# Altium footprint library Librerias PCB.PcbLib: 26 footprints (part 1 of 2)
Each footprint in its own frame and in the unit in brackets; x right, y up, seen from the top. Pads: shape width x height; smd on the part's side, far side on the other; paste and mask are expansions set on the pad; w line width, h text height; cw(c..) or ccw(c..) is an arc to the next point about the centre after c.
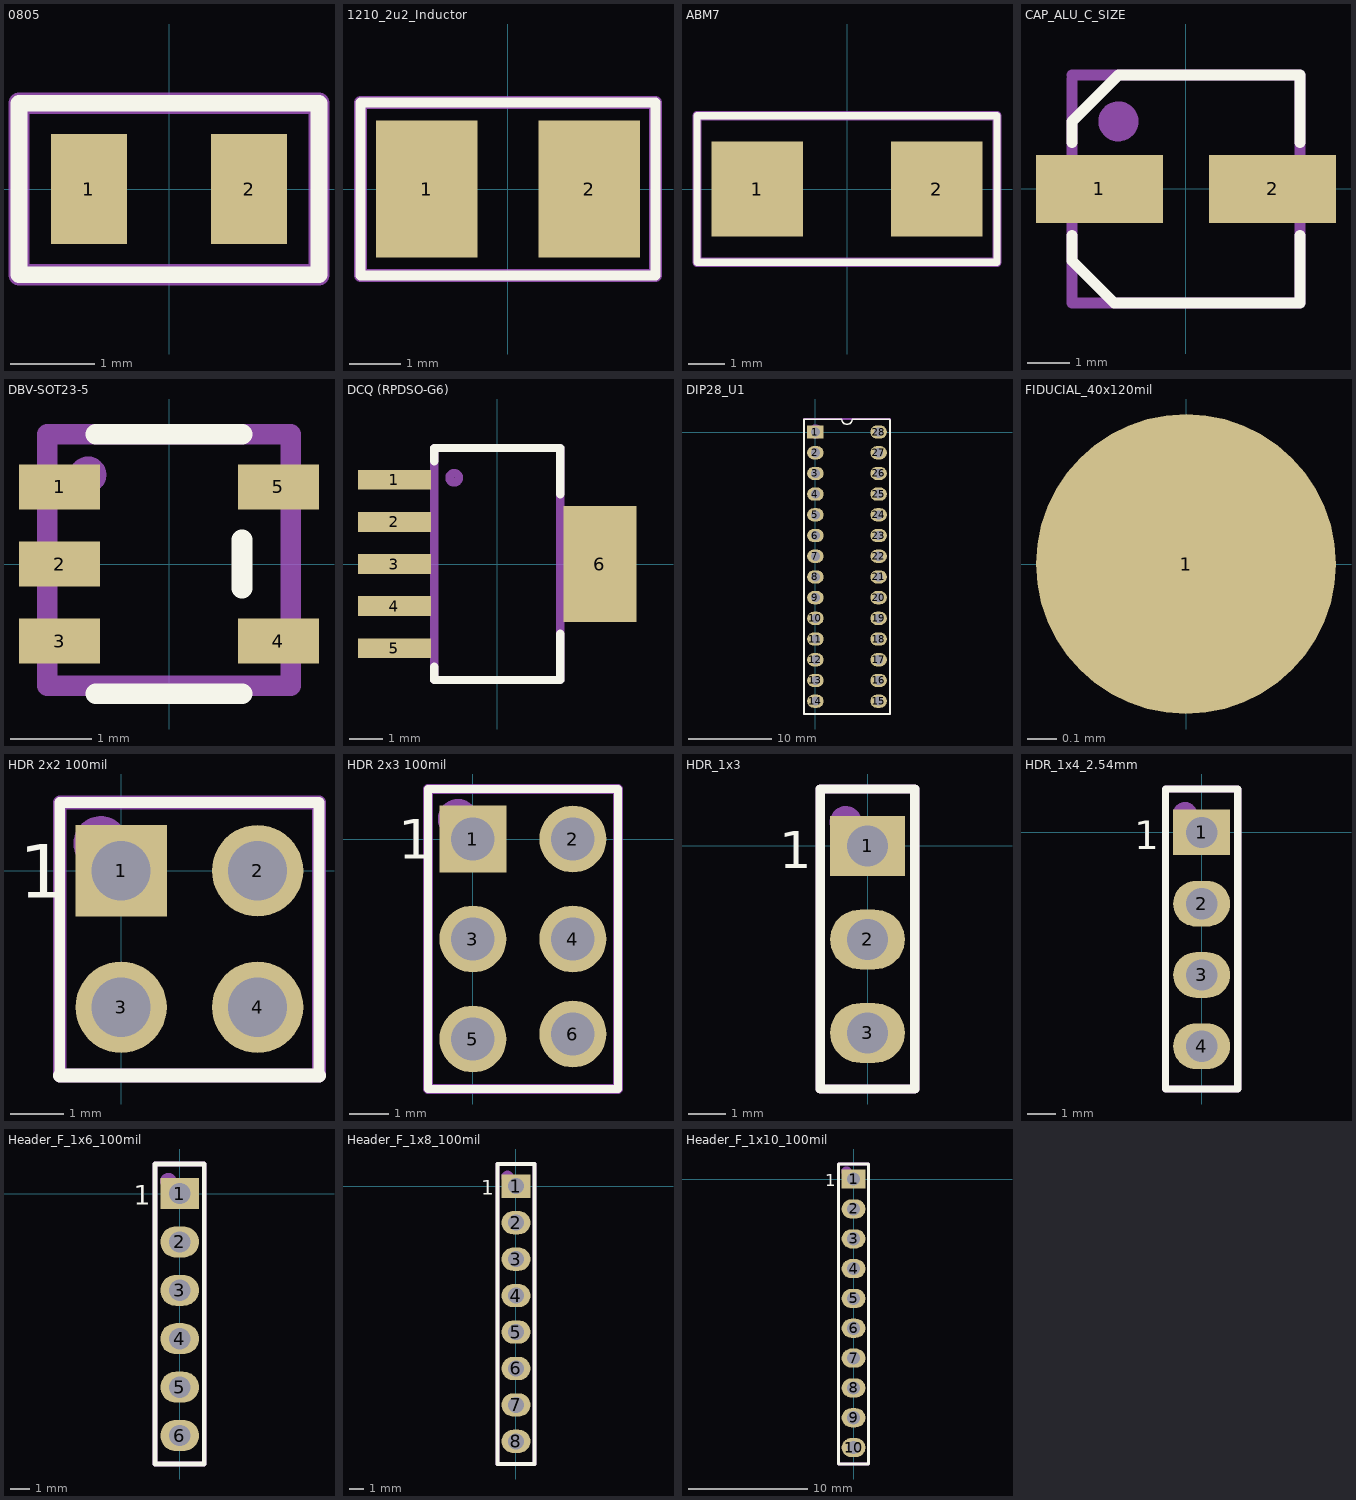
[diagram p0: the footprints below, top view; thin cyan lines are the x and y axes]

## 0805 [mm]
pads (2):
  rect 0.9x1.3 smd: 1(-0.95,0) 2(0.95,0)
Top Overlay:
  lines w0.2: -1.778,-1.016 -1.778,1.016 1.778,1.016 1.778,-1.016 -1.778,-1.016
Mechanical 29:
  lines w0.254: -1.778,-1.016 -1.778,1.016 1.778,1.016 1.778,-1.016 -1.778,-1.016
  text ".Designator" at -0.381,-0.212 h0.51
3D body "c0805c104j5ractu.stp": height 0.88, standoff 0, extent -1.057,-0.725 1.143,0.725

## 1210_2u2_Inductor [mm]
pads (2):
  rect 2x2.7 smd: 1(-1.6,0) 2(1.6,0)
Top Overlay:
  lines w0.2: -2.9,-1.7 -2.9,1.7 2.9,1.7 2.9,-1.7 -2.9,-1.7
Mechanical 29:
  lines w0.254: -2.9,-1.7 2.9,-1.7 2.9,1.7 -2.9,1.7 -2.9,-1.7
  text ".Designator" at -1.6,-0.367 h1
3D body "1206_Inductor.stp": height 0.56, standoff 0.01, extent -1.45,-0.7 1.65,0.85

## ABM7 [mm]
pads (2):
  rect 2.5x2.6 smd: 1(-2.45,0) 2(2.45,0)
Top Overlay:
  lines w0.2: -4.1,-2 4.1,-2 4.1,2 -4.1,2 -4.1,-2
Mechanical 29:
  lines w0.254: -4.1,-2 -4.1,2 4.1,2 4.1,-2 -4.1,-2
  text ".Designator" at -1.446,-0.338 h1.52
3D body "User Library-Xtal-ABM7.STEP": height 1.41, standoff 0.01, extent -3.1,-1.9 3.1,1.8

## CAP_ALU_C_SIZE [mm]
pads (2):
  rect 3x1.6 smd: 1(-2.05,0) 2(2.05,0)
Top Overlay:
  lines w0.254: -2.7,-1.1 -2.7,-1.7 -1.7,-2.7 2.7,-2.7 2.7,-1.1 ; -2.7,1.1 -2.7,1.6 -1.6,2.7 2.7,2.7 2.7,1.1
Mechanical 29:
  circle w0.5: c-1.6,1.6 r0.224
  lines w0.254: -2.7,2.6 -2.7,-2.7 2.7,-2.7 2.7,2.7 -2.7,2.7
  text "String" at 0.2,0.633 h1.3
3D body "User Library-capacitor size C.step": height 5.41, standoff -0.01, extent -2.95,-2.65 2.95,2.65

## DBV-SOT23-5 [mm]
pads (5):
  rect 1x0.55 smd: 1(-1.35,0.95) 2(-1.35,0) 3(-1.35,-0.95) 4(1.35,-0.95) 5(1.35,0.95)
Top Overlay:
  lines w0.254: -0.9,-1.6 0.9,-1.6 ; -0.9,1.6 0.9,1.6 ; 0.9,-0.3 0.9,0.3
Mechanical 29:
  circle w0.254: c-1,1.1 r0.1
  lines w0.254: -1.5,-1.5 -1.5,1.6 1.5,1.6 1.5,-1.5 -1.5,-1.5
  text ".Designator" at -0.5,-0.6 h0.6
3D body "User Library-TPS560200DBV.step": height 1.31, standoff -0.14, extent -1.514,-1.5 1.514,1.5

## DCQ (RPDSO-G6) [mm]
pads (6):
  rect 2.2x0.6 smd: 1(-3.1,2.54) 2(-3.1,1.27) 3(-3.1,0) 4(-3.1,-1.27) 5(-3.1,-2.54)
  rect 2.2x3.5 smd: 6(3.1,0)
Top Overlay:
  lines w0.254: -1.9,-3.1 -1.9,-3.5 1.9,-3.5 1.9,-2.1 ; -1.9,3.1 -1.9,3.5 1.9,3.5 1.9,2.1
Mechanical 29:
  circle w0.254: c-1.3,2.6 r0.141
  lines w0.254: -1.9,-3.5 -1.9,3.5 1.9,3.5 1.9,-3.5 -1.9,-3.5
  text "String" at 1.092,-2.6 h1.52
3D body "User Library-TPS73701DCQ.step": height 1.71, standoff -0.09, extent -3.63,-3.275 3.63,3.275

## DIP28_7.62mm_Socket [mm] "DIP28_IC_Socket"
3D body "DIP28_Socket.stp": height 5, standoff -3.1, extent -0.9,-34.56 9.1,1

## DIP28_U1 [mm]
pads (28):
  rect 2x1.6 hole 1.1: 1(0,0)
  oval 2x1.6 hole 1.1: 2(0,-2.5) 3(0,-5) 4(0,-7.5) 5(0,-10) 6(0,-12.5) 7(0,-15) 8(0,-17.5) 9(0,-20) 10(0,-22.5) 11(0,-25) 12(0,-27.5) 13(0,-30) 14(0,-32.5) 15(7.62,-32.5) 16(7.62,-30) 17(7.62,-27.5) 18(7.62,-25) 19(7.62,-22.5) 20(7.62,-20) 21(7.62,-17.5) 22(7.62,-15) 23(7.62,-12.5) 24(7.62,-10) 25(7.62,-7.5) 26(7.62,-5) 27(7.62,-2.5) 28(7.62,0)
Top Overlay:
  lines w0.2: -1.39,-34.05 -1.39,1.55 3.185,1.55 ccw(c3.81,1.55) 4.435,1.55 8.935,1.55 8.966,1.519 9.01,1.475 9.01,-34.05 -1.39,-34.05
Mechanical 29:
  circle w0.5: c0.01,0.05 r0.608
  lines w0.254: -1.39,-34.05 9.01,-34.05 9.01,1.55 -1.39,1.55 -1.39,-34.05
  text ".Designator" at 6.21,-31.55 h3
3D body "User Library-User Library-ATmega 48_88_168_328 28P3_90DEG.step": height 8.04, standoff 0.92, extent -0.043,-33.675 7.863,0.975

## FIDUCIAL_40x120mil [mil]
pads (1):
  round 40 smd paste-40 mask+40: 1(0,0)

## HDR 2x2 100mil [mm]
pads (4):
  rect 1.7x1.7 hole 1.1: 1(0,0)
  round 1.7 hole 1.1: 2(2.54,0) 3(0,-2.54) 4(2.54,-2.54)
Top Overlay:
  lines w0.2: -1.143,-3.81 -1.143,1.27 1.905,1.27 ; 0.635,1.27 3.683,1.27 3.683,-3.81
  lines w0.254: -1.143,-3.81 3.683,-3.81
  text "1" at -1.9,-0.5 h1
Mechanical 29:
  circle w0.508: c-0.381,0.508 r0.254
  lines w0.254: -1.143,-3.81 3.683,-3.81 3.683,1.27 -1.143,1.27 -1.143,-3.81
  text ".Designator" at 1.397,-3.683 h1.52
3D body "mill-max-800-10-004-10-002000.STEP": height 6.18, standoff -3.59, extent -1.27,-3.81 3.81,1.27

## HDR 2x3 100mil [mm]
pads (6):
  rect 1.7x1.7 hole 1.1: 1(0,0)
  round 1.7 hole 1.1: 2(2.54,0) 3(0,-2.54) 4(2.54,-2.54) 5(0,-5.08) 6(2.54,-4.953)
Top Overlay:
  lines w0.2: 0.635,1.27 3.683,1.27 3.683,-6.35 -1.143,-6.35 -1.143,1.27 1.905,1.27
  text "1" at -1.9,-0.5 h1
Mechanical 29:
  circle w0.508: c-0.381,0.508 r0.254
  lines w0.254: -1.143,-6.35 -1.143,1.27 3.683,1.27 3.683,-6.35 -1.143,-6.35
  text ".Designator" at 1.397,-3.683 h1.52
3D body "User Library-2x3 TH Pitch 2_54mm.STEP": height 9.21, standoff -3.49, extent -1.27,-6.352 3.81,1.272

## HDR_1x3 [mm]
pads (3):
  rect 2x1.6 hole 1.1: 1(0,0)
  oval 2x1.6 hole 1.1: 2(0,-2.5) 3(0,-5)
Top Overlay:
  lines w0.254: -1.27,-6.5 -1.27,1.524 1.27,1.524 1.27,-6.5 -1.27,-6.5
  text "1" at -2.367,-0.589 h1
Mechanical 29:
  circle w0.5: c-0.582,0.635 r0.18
  lines w0.254: -1.27,-6.5 -1.27,1.524 1.27,1.524 1.27,-6.5 -1.27,-6.5
  text ".Designator" at 0.338,-5.946 h1.52
3D body "User Library-1x3 TH Pitch 2_54mm.STEP": height 9.21, standoff -3.49, extent -1.27,-6.31 1.27,1.31

## HDR_1x4_2.54mm [mm]
pads (4):
  rect 2x1.6 hole 1.1: 1(0,0)
  oval 2x1.6 hole 1.1: 2(0,-2.5) 3(0,-5) 4(0,-7.5)
Top Overlay:
  lines w0.254: -1.27,-9 -1.27,1.524 1.27,1.524 1.27,-9 -1.27,-9
  text "1" at -2.367,-0.589 h1
Mechanical 29:
  circle w0.5: c-0.582,0.635 r0.18
  lines w0.254: -1.27,-9 1.27,-9 1.27,1.524 -1.27,1.524 -1.27,-9
  text ".Designator" at 0.838,-6.446 h1.52
3D body "User Library-pin header 1x4.STEP": height 8.52, standoff -3.67, extent -1.42,-8.8 1.5,1.36

## Header_F_1x6_100mil [mm]
pads (6):
  rect 2x1.6 hole 1.1: 1(0,0)
  oval 2x1.6 hole 1.1: 2(0,-2.5) 3(0,-5) 4(0,-7.5) 5(0,-10) 6(0,-12.5)
Top Overlay:
  lines w0.254: -1.27,-13.97 1.27,-13.97 1.27,1.524 -1.27,1.524 -1.27,-13.97
  text "1" at -2.367,-0.589 h1
Mechanical 29:
  circle w0.5: c-0.582,0.635 r0.18
  lines w0.254: -1.27,-13.97 -1.27,1.524 1.27,1.524 1.27,-13.97 -1.27,-13.97
  text ".Designator" at 0.508,-13.716 h1.52
3D body "User Library-Header_Fem_1X6.step": height 8.5, standoff -3.2, extent -1.27,-14.216 1.27,1.524

## Header_F_1x8_100mil [mm]
pads (8):
  rect 2x1.6 hole 1.1: 1(0,0)
  oval 2x1.6 hole 1.1: 2(0,-2.5) 3(0,-5) 4(0,-7.5) 5(0,-10) 6(0,-12.5) 7(0,-15) 8(0,-17.5)
Top Overlay:
  lines w0.254: -1.27,-19.05 1.27,-19.05 1.27,1.524 -1.27,1.524 -1.27,-19.05
  text "1" at -2.367,-0.589 h1
Mechanical 29:
  circle w0.5: c-0.582,0.635 r0.18
  lines w0.254: -1.27,-19.05 1.27,-19.05 1.27,1.524 -1.27,1.524 -1.27,-19.05
  text ".Designator" at 0.635,-16.256 h1.52
3D body "User Library-Header _Fem_1X8.step": height 8.5, standoff -3.2, extent -1.27,-19.296 1.27,1.524

## Header_F_1x10_100mil [mm]
pads (10):
  rect 2x1.6 hole 1.1: 1(0,0)
  oval 2x1.6 hole 1.1: 2(0,-2.5) 3(0,-5) 4(0,-7.5) 5(0,-10) 6(0,-12.5) 7(0,-15) 8(0,-17.5) 9(0,-20) 10(0,-22.5)
Top Overlay:
  lines w0.254: -1.27,-23.876 1.27,-23.876 1.27,1.27 -1.27,1.27 -1.27,-23.876
  text "1" at -2.367,-0.589 h1
Mechanical 29:
  circle w0.5: c-0.582,0.635 r0.18
  lines w0.254: -1.27,-23.876 1.27,-23.876 1.27,1.27 -1.27,1.27 -1.27,-23.876
  text ".Designator" at 0.635,-16.256 h1.52
3D body "User Library-Header_Fem_1X10.step": height 8.5, standoff -3.2, extent -1.27,-24.249 1.27,1.651